# Altium schematic symbol library Sch_Passive_Componnent.SchLib: 22 symbols
Pins are listed as number, name and electrical type; pins without a type are passive.

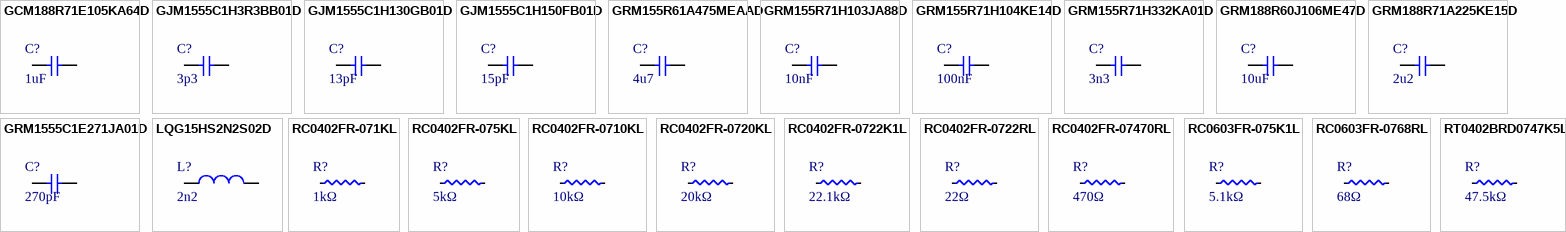
[diagram p0: symbols GCM188R71E105KA64D to RT0402BRD0747K5L]

## GCM188R71E105KA64D
designator C?, comment 1uF
Ceramic Capacitor, Multilayer, Ceramic, 25V, 10% +Tol, 10% -Tol, X7R, 15% TC, 1uF, Surface Mount, 0603; Manufacturer: Murata; Manufacturer Part Number: GCM188R71E105KA64D; Multilayer: Yes; Reference Standard: AEC-Q200; Supplier: Digikey; Supplier Part Number: 490-10673-1-ND; RoHS: Yes; Category: Ceramic Capacitors; Stock: 1335317; Pricing: 1=0.2, 10=0.116, 100=0.0723, 1000=0.05004 (USD); Mounting Technology: Surface Mount; Pins: 2; Dielectric Material: Ceramic; Package Shape: Rectangular; Case/Package: 0603; Terminal Finish: Nickel; Min Operating Temperature: -55°C; Max Operating Temperature: 125°C; JESD-609 Code: e3; Value: 1uF; Capacitor Type: Ceramic; Tolerance  (fill in as +-): 10%; Package Style: SMTMeter; Packaging: Tape and Reel; Tolerance (fill in as +-): 10%; Rated DC Voltage (URdc): 25V; Temperature Characteristics Code: X7R; Termination: Wraparound; Length: 1.6mm; Width: 0.8mm; Height: 0.9mm; Reach SVHC Compliant: Yes; RoHS Compliant: Yes; ComponentLink1URL: https://datasheet.ciiva.com:443/pdfs/VipMasterIC/IC/MURE/MURE-S-A0004362469/MURE-S-A0004362812-1.pdf?src-supplier=IHS+Markit; ComponentLink1Description: https://datasheet.ciiva.com:443/pdfs/VipMasterIC/IC/MURE/MURE-S-A0004362469/MURE-S-A0004362812-1.pdf?src-supplier=IHS+Markit; ComponentLink2URL: https://datasheet.ciiva.com/11616/product-11616499.pdf?src-supplier=Avnet; ComponentLink2Description: https://datasheet.ciiva.com/11616/product-11616499.pdf?src-supplier=Avnet; ComponentLink3URL: https://datasheet.ciiva.com/26843/getdatasheetpartid-562446-26843671.pdf?src-supplier=Verical; ComponentLink3Description: https://datasheet.ciiva.com/26843/getdatasheetpartid-562446-26843671.pdf?src-supplier=Verical; LCSC Part #: C85862
footprint CAP 0603
pins: 1, 2

## GJM1555C1H3R3BB01D
designator C?, comment 3p3
50V 3.3pF C0G 0402 Multilayer Ceramic Capacitors MLCC - SMD/SMT ROHS; Manufacturer: Murata; Manufacturer Part Number: GJM1555C1H3R3BB01D; Multilayer: Yes; Tolerance  (fill in as +-): 3.03%; Supplier: Digikey; Supplier Part Number: 490-8097-6-ND; RoHS: Yes; Category: Ceramic Capacitors; Pricing: 1=0.1, 10=0.052, 50=0.0356, 100=0.0307, 500=0.02224, 1000=0.01991, 2500=0.01725, 5000=0.01565 (USD); Mounting Technology: Surface Mount; Pins: 2; Dielectric Material: Ceramic; Package Shape: Rectangular; Case/Package: 0402; Terminal Finish: Nickel; Min Operating Temperature: -55°C; Max Operating Temperature: 125°C; JESD-609 Code: e3; Value: 3.3pF; Capacitor Type: Ceramic; Package Style: SMTMeter; Packaging: Tape and Reel; Tolerance (fill in as +-): 3.03%; Rated DC Voltage (URdc): 50V; Temperature Characteristics Code: C0G; Termination: Wraparound; Length: 1mm; Width: 0.5mm; Height: 0.5mm; Reach SVHC Compliant: Yes; RoHS Compliant: Yes; ComponentLink1URL: https://datasheet.ciiva.com:443/pdfs/VipMasterIC/IC/MURE/MURE-S-A0008911154/MURE-S-A0008911150-1.pdf?src-supplier=IHS+Markit; ComponentLink1Description: https://datasheet.ciiva.com:443/pdfs/VipMasterIC/IC/MURE/MURE-S-A0008911154/MURE-S-A0008911150-1.pdf?src-supplier=IHS+Markit; ComponentLink2URL: https://datasheet.ciiva.com/8030/1700175-8030120.pdf?src-supplier=Element14; ComponentLink2Description: https://datasheet.ciiva.com/8030/1700175-8030120.pdf?src-supplier=Element14; ComponentLink3URL: https://datasheet.ciiva.com/11614/product-11614199.pdf?src-supplier=Avnet; ComponentLink3Description: https://datasheet.ciiva.com/11614/product-11614199.pdf?src-supplier=Avnet; LCSC Part #: C76906
footprint CAP 0402
pins: 1, 2

## GJM1555C1H130GB01D
designator C?, comment 13pF
50V 13pF C0G ±2% 0402 Multilayer Ceramic Capacitors MLCC - SMD/SMT ROHS; Manufacturer: Murata; Manufacturer Part Number: GJM1555C1H130GB01D; Multilayer: Yes; Supplier: Digikey; Supplier Part Number: 490-8079-1-ND; RoHS: Yes; Category: Ceramic Capacitors; Stock: 115442; Pricing: 1=0.15, 10=0.082, 100=0.0501, 1000=0.03306, 2500=0.02717, 5000=0.02687 (USD); Mounting Technology: Surface Mount; Pins: 2; Dielectric Material: Ceramic; Package Shape: Rectangular; Case/Package: 0402; Terminal Finish: Nickel; Min Operating Temperature: -55°C; Max Operating Temperature: 125°C; JESD-609 Code: e3; Value: 13pF; Capacitor Type: Ceramic; Tolerance  (fill in as +-): 2%; Package Style: SMTMeter; Packaging: Tape and Reel; Tolerance (fill in as +-): 2%; Rated DC Voltage (URdc): 50V; Temperature Characteristics Code: C0G; Termination: Wraparound; Length: 1mm; Width: 0.5mm; Height: 0.5mm; Reach SVHC Compliant: Yes; RoHS Compliant: Yes; ComponentLink1URL: https://datasheet.ciiva.com:443/pdfs/VipMasterIC/IC/MURE/MURE-S-A0004378008/MURE-S-A0004383563-1.pdf?src-supplier=IHS+Markit; ComponentLink1Description: https://datasheet.ciiva.com:443/pdfs/VipMasterIC/IC/MURE/MURE-S-A0004378008/MURE-S-A0004383563-1.pdf?src-supplier=IHS+Markit; ComponentLink2URL: https://datasheet.ciiva.com/166/product-166991.pdf?src-supplier=Digikey; ComponentLink2Description: https://datasheet.ciiva.com/166/product-166991.pdf?src-supplier=Digikey; ComponentLink3URL: https://datasheet.ciiva.com/29542/partnumbering-e-01-29542733.pdf?src-supplier=Digikey; ComponentLink3Description: https://datasheet.ciiva.com/29542/partnumbering-e-01-29542733.pdf?src-supplier=Digikey; ComponentLink4URL: https://datasheet.ciiva.com/29542/partnumbering-e-01-29542734.pdf?src-supplier=Digikey; ComponentLink4Description: https://datasheet.ciiva.com/29542/partnumbering-e-01-29542734.pdf?src-supplier=Digikey; ComponentLink5URL: https://datasheet.ciiva.com/29542/partnumbering-e-01-29542735.pdf?src-supplier=Digikey; ComponentLink5Description: https://datasheet.ciiva.com/29542/partnumbering-e-01-29542735.pdf?src-supplier=Digikey; LCSC Part #: C2167421
footprint CAP 0402
pins: 1, 2

## GJM1555C1H150FB01D
designator C?, comment 15pF
Ceramic Capacitor, Multilayer, Ceramic, 50V, 1% +Tol, 1% -Tol, C0G, 30ppm/Cel TC, 0.000015uF, Surface Mount, 0402; Manufacturer: Murata; Manufacturer Part Number: GJM1555C1H150FB01D; Multilayer: Yes; Supplier: Digikey; Supplier Part Number: 490-11191-6-ND; RoHS: Yes; Category: Ceramic Capacitors; Stock: 61415; Pricing: 1=0.13, 10=0.074, 100=0.0446, 1000=0.02973, 2500=0.02606, 5000=0.02385 (USD); Mounting Technology: Surface Mount; Pins: 2; Dielectric Material: Ceramic; Package Shape: Rectangular; Case/Package: 0402; Terminal Finish: Nickel; Min Operating Temperature: -55°C; Max Operating Temperature: 125°C; JESD-609 Code: e3; Value: 15pF; Capacitor Type: Ceramic; Tolerance: 1%; Packaging: Tape and Reel; Tolerance (fill in as +-): 1%; Rated DC Voltage (URdc): 50V; Temperature Characteristics Code: C0G; Termination: Wraparound; Reach SVHC Compliant: Yes; RoHS Compliant: Yes; ComponentLink1URL: https://datasheet.ciiva.com:443/pdfs/VipMasterIC/IC/MURE/MURE-S-A0004383799/MURE-S-A0004384018-1.pdf?src-supplier=IHS+Markit; ComponentLink1Description: https://datasheet.ciiva.com:443/pdfs/VipMasterIC/IC/MURE/MURE-S-A0004383799/MURE-S-A0004384018-1.pdf?src-supplier=IHS+Markit; ComponentLink2URL: https://datasheet.ciiva.com/11608/c02e-11608383.pdf?src-supplier=Avnet; ComponentLink2Description: https://datasheet.ciiva.com/11608/c02e-11608383.pdf?src-supplier=Avnet; LCSC Part #: C441742
footprint CAP 0402
pins: 1, 2

## GRM155R61A475MEAAD
designator C?, comment 4u7
10V 4.7uF X5R ±20% 0402 Multilayer Ceramic Capacitors MLCC - SMD/SMT ROHS; Manufacturer: Murata; Manufacturer Part Number: GRM155R61A475MEAAD; Multilayer: Yes; Supplier: Digikey; Supplier Part Number: 490-14306-1-ND; RoHS: Yes; Category: Ceramic Capacitors; Stock: 45907; Pricing: 1=0.11, 10=0.058, 50=0.04, 100=0.0346, 500=0.02542, 1000=0.02261, 2500=0.01966, 5000=0.01789 (USD); Mounting Technology: Surface Mount; Pins: 2; Dielectric Material: Ceramic; Package Shape: Rectangular; Case/Package: 0402; Terminal Finish: Nickel; Min Operating Temperature: -55°C; Max Operating Temperature: 85°C; JESD-609 Code: e3; Value: 4.7uF; Capacitor Type: Ceramic; Tolerance  (fill in as +-): 20%; Packaging: Tape and Reel; Tolerance (fill in as +-): 20%; Rated DC Voltage (URdc): 10V; Temperature Characteristics Code: X5R; Termination: Wraparound; Reach SVHC Compliant: Yes; RoHS Compliant: Yes; ComponentLink1URL: https://psearch.en.murata.com:443/capacitor/product/GRM155R61A475MEAA%23.pdf?src-supplier=IHS+Markit; ComponentLink1Description: https://psearch.en.murata.com:443/capacitor/product/GRM155R61A475MEAA%23.pdf?src-supplier=IHS+Markit; ComponentLink2URL: http://www.farnell.com/datasheets/2189109.pdf?src-supplier=Farnell; ComponentLink2Description: http://www.farnell.com/datasheets/2189109.pdf?src-supplier=Farnell; ComponentLink3URL: http://www.farnell.com/datasheets/2189109.pdf?src-supplier=Element14; ComponentLink3Description: http://www.farnell.com/datasheets/2189109.pdf?src-supplier=Element14; ComponentLink4URL: http://datasheet.octopart.com/GRM155R61A475MEAAD-Murata-datasheet-68589269.pdf?src-supplier=Farnell; ComponentLink4Description: http://datasheet.octopart.com/GRM155R61A475MEAAD-Murata-datasheet-68589269.pdf?src-supplier=Farnell; ComponentLink5URL: https://search.murata.co.jp/Ceramy/image/img/A01X/G101/ENG/GRM155R61A475MEAA-01.pdf?src-supplier=Digikey; ComponentLink5Description: https://search.murata.co.jp/Ceramy/image/img/A01X/G101/ENG/GRM155R61A475MEAA-01.pdf?src-supplier=Digikey; ComponentLink6URL: https://datasheet.octopart.com/GRM155R61A475MEAAD-Murata-datasheet-68589269.pdf?src-supplier=Newark; ComponentLink6Description: https://datasheet.octopart.com/GRM155R61A475MEAAD-Murata-datasheet-68589269.pdf?src-supplier=Newark; ComponentLink7URL: http://datasheet.octopart.com/GRM155R61A475MEAAD-Murata-datasheet-68589269.pdf?src-supplier=Verical; ComponentLink7Description: http://datasheet.octopart.com/GRM155R61A475MEAAD-Murata-datasheet-68589269.pdf?src-supplier=Verical; ComponentLink8URL: https://datasheet.octopart.com/GRM155R61A475MEAAD-Murata-datasheet-165579666.pdf?src-supplier=TME; ComponentLink8Description: https://datasheet.octopart.com/GRM155R61A475MEAAD-Murata-datasheet-165579666.pdf?src-supplier=TME; ComponentLink9URL: http://datasheet.octopart.com/GRM155R61A475MEAAD-Murata-datasheet-68589269.pdf?src-supplier=Quest; ComponentLink9Description: http://datasheet.octopart.com/GRM155R61A475MEAAD-Murata-datasheet-68589269.pdf?src-supplier=Quest; ComponentLink10URL: http://datasheet.octopart.com/GRM155R61A475MEAAD-Murata-datasheet-68589269.pdf?src-supplier=TTI; ComponentLink10Description: http://datasheet.octopart.com/GRM155R61A475MEAAD-Murata-datasheet-68589269.pdf?src-supplier=TTI; LCSC Part #: C335105
footprint CAP 0402
pins: 1, 2

## GRM155R71H103JA88D
designator C?, comment 10nF
Ceramic Capacitor, Multilayer, Ceramic, 50V, 5% +Tol, 5% -Tol, X7R, 15% TC, 0.01uF, Surface Mount, 0402; Manufacturer: Murata; Manufacturer Part Number: GRM155R71H103JA88D; Multilayer: Yes; Supplier: Digikey; Supplier Part Number: 490-7763-1-ND; RoHS: Yes; Category: Ceramic Capacitors; Stock: 241379; Pricing: 1=0.1, 10=0.027, 100=0.0151, 1000=0.00932, 2500=0.00781, 5000=0.00704 (USD); Mounting Technology: Surface Mount; Pins: 2; Dielectric Material: Ceramic; Package Shape: Rectangular; Case/Package: 0402; Terminal Finish: Nickel; Min Operating Temperature: -55°C; Max Operating Temperature: 125°C; JESD-609 Code: e3; Value: 10nF; Capacitor Type: Ceramic; Tolerance  (fill in as +-): 5%; Packaging: Tape and Reel; Tolerance (fill in as +-): 5%; Rated DC Voltage (URdc): 50V; Temperature Characteristics Code: X7R; Termination: Wraparound; Reach SVHC Compliant: Yes; RoHS Compliant: Yes; ComponentLink1URL: https://datasheet.ciiva.com:443/pdfs/VipMasterIC/IC/MURE/MURE-S-A0004362469/MURE-S-A0004364623-1.pdf?src-supplier=IHS+Markit; ComponentLink1Description: https://datasheet.ciiva.com:443/pdfs/VipMasterIC/IC/MURE/MURE-S-A0004362469/MURE-S-A0004364623-1.pdf?src-supplier=IHS+Markit; ComponentLink2URL: https://datasheet.ciiva.com/29541/grm155r71h103ja88-01-29541105.pdf?src-supplier=Digikey; ComponentLink2Description: https://datasheet.ciiva.com/29541/grm155r71h103ja88-01-29541105.pdf?src-supplier=Digikey; ComponentLink3URL: https://datasheet.ciiva.com/5414/product-5414326.pdf?src-supplier=Mouser; ComponentLink3Description: https://datasheet.ciiva.com/5414/product-5414326.pdf?src-supplier=Mouser; LCSC Part #: C162190
footprint CAP 0402
pins: 1, 2

## GRM155R71H104KE14D
designator C?, comment 100nF
Ceramic Capacitor, Multilayer, Ceramic, 50V, 10% +Tol, 10% -Tol, X7R, 15% TC, 0.1uF, Surface Mount, 0402; Manufacturer: Murata; Manufacturer Part Number: GRM155R71H104KE14D; Multilayer: Yes; Supplier: Digikey; Supplier Part Number: 490-10700-1-ND; RoHS: Yes; Category: Ceramic Capacitors; Stock: 2382942; Pricing: 1=0.1, 10=0.025, 100=0.0139, 1000=0.00852, 2500=0.0072, 5000=0.0064 (USD); Mounting Technology: Surface Mount; Pins: 2; Dielectric Material: Ceramic; Package Shape: Rectangular; Case/Package: 0402; Terminal Finish: Nickel; Min Operating Temperature: -55°C; Max Operating Temperature: 125°C; JESD-609 Code: e3; Value: 100nF; Capacitor Type: Ceramic; Tolerance  (fill in as +-): 10%; Package Style: SMTMeter; Packaging: Tape and Reel; Tolerance (fill in as +-): 10%; Rated DC Voltage (URdc): 50V; Temperature Characteristics Code: X7R; Termination: Wraparound; Length: 1mm; Width: 0.5mm; Height: 0.5mm; Reach SVHC Compliant: Yes; RoHS Compliant: Yes; ComponentLink1URL: https://datasheet.ciiva.com:443/pdfs/VipMasterIC/IC/MURE/MURE-S-A0004362469/MURE-S-A0004364757-1.pdf?src-supplier=IHS+Markit; ComponentLink1Description: https://datasheet.ciiva.com:443/pdfs/VipMasterIC/IC/MURE/MURE-S-A0004362469/MURE-S-A0004364757-1.pdf?src-supplier=IHS+Markit; ComponentLink2URL: http://www.farnell.com/datasheets/2079156.pdf?src-supplier=Farnell; ComponentLink2Description: http://www.farnell.com/datasheets/2079156.pdf?src-supplier=Farnell; ComponentLink3URL: https://datasheet.octopart.com/GRM155R71H104KE14D-Murata-datasheet-66077078.pdf?src-supplier=Element14; ComponentLink3Description: https://datasheet.octopart.com/GRM155R71H104KE14D-Murata-datasheet-66077078.pdf?src-supplier=Element14; ComponentLink4URL: https://search.murata.co.jp/Ceramy/image/img/A01X/G101/ENG/GRM155R71H104KE14-01.pdf?src-supplier=Digikey; ComponentLink4Description: https://search.murata.co.jp/Ceramy/image/img/A01X/G101/ENG/GRM155R71H104KE14-01.pdf?src-supplier=Digikey; ComponentLink5URL: https://datasheet.octopart.com/GRM155R71H104KE14D-Murata-datasheet-22122223.pdf?src-supplier=Future+Electronics; ComponentLink5Description: https://datasheet.octopart.com/GRM155R71H104KE14D-Murata-datasheet-22122223.pdf?src-supplier=Future+Electronics; ComponentLink6URL: http://www.farnell.com/datasheets/2079156.pdf?src-supplier=Newark; ComponentLink6Description: http://www.farnell.com/datasheets/2079156.pdf?src-supplier=Newark; ComponentLink7URL: http://psearch.en.murata.com/capacitor/product/GRM155R71H104KE14%23.pdf?src-supplier=Avnet; ComponentLink7Description: http://psearch.en.murata.com/capacitor/product/GRM155R71H104KE14%23.pdf?src-supplier=Avnet; LCSC Part #: C77020
footprint CAP 0402
pins: 1, 2

## GRM155R71H332KA01D
designator C?, comment 3n3
50V 3.3nF X7R ±10% 0402 Multilayer Ceramic Capacitors MLCC - SMD/SMT ROHS; Manufacturer: Murata; Manufacturer Part Number: GRM155R71H332KA01D; Dissipation Factor: 0.025%; Insulation Resistance: 10GR; Supplier: Digikey; Supplier Part Number: 490-3248-1-ND; RoHS: Yes; Category: Ceramic Capacitors; Stock: 45156; Pricing: 1=0.1, 10=0.025, 100=0.0139, 1000=0.00852, 2500=0.00676, 5000=0.0064 (USD); Mounting Technology: Surface Mount; Case/Package: 0402; Pins: 2NUMBER; Case Code (Metric): 1005; Case Code (Imperial): 0402; Material: Ceramic; Min Operating Temperature: -55°C; Max Operating Temperature: 125°C; Value: 3.3nF; Tolerance: 10%; Package Quantity: 1; Packaging: Tape and Reel; Voltage Rating (DC): 50V; Voltage Rating: 50V; Dielectric: X7R; Termination: SMD/SMT; Voltage: 50V; Series: GRM; Construction: Flat; Length: 1mm; Width: 0.02inch; Height: 0.5mm; Thickness: 0.022inch; Depth: 0.5mm; Radiation Hardening: No; Reach SVHC Compliant: No; RoHS Compliant: Yes; Lead Free: 5697LeadFree; ComponentLink1URL: https://datasheet.ciiva.com/129/grm155r71h332ka01-01-129766.pdf?src-supplier=Digikey; ComponentLink1Description: https://datasheet.ciiva.com/129/grm155r71h332ka01-01-129766.pdf?src-supplier=Digikey; ComponentLink2URL: https://datasheet.ciiva.com/129/grm155r71h332ka01-01-129767.pdf?src-supplier=Digikey; ComponentLink2Description: https://datasheet.ciiva.com/129/grm155r71h332ka01-01-129767.pdf?src-supplier=Digikey; ComponentLink3URL: https://datasheet.ciiva.com/11789/0900766b80ef921d-11789161.pdf?src-supplier=Rs; ComponentLink3Description: https://datasheet.ciiva.com/11789/0900766b80ef921d-11789161.pdf?src-supplier=Rs; ComponentLink4URL: https://datasheet.ciiva.com/5422/product-5422403.pdf?src-supplier=Mouser; ComponentLink4Description: https://datasheet.ciiva.com/5422/product-5422403.pdf?src-supplier=Mouser; ComponentLink5URL: https://datasheet.ciiva.com/18184/getdatasheetpartid-149678-18184747.pdf?src-supplier=Verical; ComponentLink5Description: https://datasheet.ciiva.com/18184/getdatasheetpartid-149678-18184747.pdf?src-supplier=Verical; ComponentLink6URL: https://datasheet.ciiva.com/29199/454326-da-01-en-vs-kondensator-0402-29199651.pdf?src-supplier=Conrad; ComponentLink6Description: https://datasheet.ciiva.com/29199/454326-da-01-en-vs-kondensator-0402-29199651.pdf?src-supplier=Conrad; ComponentLink7URL: https://datasheet.ciiva.com/14116/grmseries-highdielectrictype-eng-14116909.pdf?src-supplier=Distrelec; ComponentLink7Description: https://datasheet.ciiva.com/14116/grmseries-highdielectrictype-eng-14116909.pdf?src-supplier=Distrelec; ComponentLink8URL: https://datasheet.ciiva.com/2989/product-2989413.pdf?src-supplier=Avnet; ComponentLink8Description: https://datasheet.ciiva.com/2989/product-2989413.pdf?src-supplier=Avnet; ComponentLink9URL: https://datasheet.ciiva.com/16199/product-16199259.pdf?src-supplier=Future+Electronics; ComponentLink9Description: https://datasheet.ciiva.com/16199/product-16199259.pdf?src-supplier=Future+Electronics; LCSC Part #: C85963
footprint CAP 0402
pins: 1, 2

## GRM188R60J106ME47D
designator C?, comment 10uF
6.3V 10uF X5R ±20% 0603 Multilayer Ceramic Capacitors MLCC - SMD/SMT ROHS; Manufacturer: Murata; Manufacturer Part Number: GRM188R60J106ME47D; Multilayer: Yes; Supplier: Digikey; Supplier Part Number: 490-3896-1-ND; RoHS: Yes; Category: Ceramic Capacitors; Stock: 345408; Pricing: 1=0.12, 10=0.069, 50=0.0476, 100=0.0413, 500=0.03068, 1000=0.0274 (USD); Mounting Technology: Surface Mount; Pins: 2; Dielectric Material: Ceramic; Package Shape: Rectangular; Case/Package: 0603; Terminal Finish: Nickel; Min Operating Temperature: -55°C; Max Operating Temperature: 85°C; JESD-609 Code: e3; Value: 10uF; Capacitor Type: Ceramic; Tolerance  (fill in as +-): 20%; Package Style: SMTMeter; Packaging: Tape and Reel; Tolerance (fill in as +-): 20%; Rated DC Voltage (URdc): 6.3V; Temperature Characteristics Code: X5R; Termination: Wraparound; Length: 1.6mm; Width: 0.8mm; Height: 0.8mm; Reach SVHC Compliant: Yes; RoHS Compliant: Yes; ComponentLink1URL: https://datasheet.ciiva.com:443/pdfs/VipMasterIC/IC/MURE/MURE-S-A0008911298/MURE-S-A0008911290-1.pdf?src-supplier=IHS+Markit; ComponentLink1Description: https://datasheet.ciiva.com:443/pdfs/VipMasterIC/IC/MURE/MURE-S-A0008911298/MURE-S-A0008911290-1.pdf?src-supplier=IHS+Markit; ComponentLink2URL: https://datasheet.ciiva.com/28584/415295-28584232.pdf?src-supplier=Element14; ComponentLink2Description: https://datasheet.ciiva.com/28584/415295-28584232.pdf?src-supplier=Element14; ComponentLink3URL: https://datasheet.ciiva.com/3777/10175grm188r60j106me4723-3777268.pdf?src-supplier=Arrow+Electronics; ComponentLink3Description: https://datasheet.ciiva.com/3777/10175grm188r60j106me4723-3777268.pdf?src-supplier=Arrow+Electronics; ComponentLink4URL: https://datasheet.ciiva.com/22776/1747457-22776418.pdf?src-supplier=Farnell; ComponentLink4Description: https://datasheet.ciiva.com/22776/1747457-22776418.pdf?src-supplier=Farnell; ComponentLink5URL: https://datasheet.ciiva.com/29202/450781-da-01-de-vs-chip-kond-0603-10-0-uf-20pr-6-3v-x5r-29202806.pdf?src-supplier=Conrad; ComponentLink5Description: https://datasheet.ciiva.com/29202/450781-da-01-de-vs-chip-kond-0603-10-0-uf-20pr-6-3v-x5r-29202806.pdf?src-supplier=Conrad; ComponentLink6URL: https://datasheet.ciiva.com/29199/454401-da-01-en-vs-kondensator-0603-29199677.pdf?src-supplier=Conrad; ComponentLink6Description: https://datasheet.ciiva.com/29199/454401-da-01-en-vs-kondensator-0603-29199677.pdf?src-supplier=Conrad; ComponentLink7URL: https://datasheet.ciiva.com/138/partnumbering-e-01-138659.pdf?src-supplier=Digikey; ComponentLink7Description: https://datasheet.ciiva.com/138/partnumbering-e-01-138659.pdf?src-supplier=Digikey; ComponentLink8URL: https://datasheet.ciiva.com/138/partnumbering-e-01-138658.pdf?src-supplier=Digikey; ComponentLink8Description: https://datasheet.ciiva.com/138/partnumbering-e-01-138658.pdf?src-supplier=Digikey; ComponentLink9URL: https://datasheet.ciiva.com/16373/l0005e-16373580.pdf?src-supplier=Future+Electronics; ComponentLink9Description: https://datasheet.ciiva.com/16373/l0005e-16373580.pdf?src-supplier=Future+Electronics; ComponentLink10URL: https://datasheet.ciiva.com/14116/grmseries-highdielectrictype-eng-14116428.pdf?src-supplier=Distrelec; ComponentLink10Description: https://datasheet.ciiva.com/14116/grmseries-highdielectrictype-eng-14116428.pdf?src-supplier=Distrelec; ComponentLink11URL: https://datasheet.ciiva.com/138/partnumbering-e-01-138660.pdf?src-supplier=Digikey; ComponentLink11Description: https://datasheet.ciiva.com/138/partnumbering-e-01-138660.pdf?src-supplier=Digikey; LCSC PArt #: C77041
footprint CAP 0603
pins: 1, 2

## GRM188R71A225KE15D
designator C?, comment 2u2
Ceramic Capacitor, Multilayer, Ceramic, 10V, 10% +Tol, 10% -Tol, X7R, 15% TC, 2.2uF, Surface Mount, 0603; Manufacturer: Murata; Manufacturer Part Number: GRM188R71A225KE15D; Multilayer: Yes; Supplier: Digikey; Supplier Part Number: 490-4520-1-ND; RoHS: Yes; Category: Ceramic Capacitors; Pricing: 1=0.15, 10=0.085, 100=0.052, 1000=0.03511 (USD); Mounting Technology: Surface Mount; Pins: 2; Dielectric Material: Ceramic; Package Shape: Rectangular; Case/Package: 0603; Terminal Finish: Nickel; Min Operating Temperature: -55°C; Max Operating Temperature: 125°C; JESD-609 Code: e3; Value: 2.2uF; Capacitor Type: Ceramic; Tolerance  (fill in as +-): 10%; Package Style: SMTMeter; Packaging: Tape and Reel; Tolerance (fill in as +-): 10%; Rated DC Voltage (URdc): 10V; Temperature Characteristics Code: X7R; Termination: Wraparound; Length: 1.6mm; Width: 0.8mm; Height: 0.8mm; Reach SVHC Compliant: Yes; RoHS Compliant: Yes; ComponentLink1URL: https://datasheet.ciiva.com:443/pdfs/VipMasterIC/IC/MURE/MURE-S-A0000034126/MURE-S-A0000034126-1.pdf?src-supplier=IHS+Markit; ComponentLink1Description: https://datasheet.ciiva.com:443/pdfs/VipMasterIC/IC/MURE/MURE-S-A0000034126/MURE-S-A0000034126-1.pdf?src-supplier=IHS+Markit; ComponentLink2URL: https://datasheet.ciiva.com/22703/1697709-22703330.pdf?src-supplier=Element14; ComponentLink2Description: https://datasheet.ciiva.com/22703/1697709-22703330.pdf?src-supplier=Element14; ComponentLink3URL: https://datasheet.ciiva.com/138/grm188r71a225ke15-01-138559.pdf?src-supplier=Digikey; ComponentLink3Description: https://datasheet.ciiva.com/138/grm188r71a225ke15-01-138559.pdf?src-supplier=Digikey; ComponentLink4URL: https://datasheet.ciiva.com/3778/302grm188r71a225ke1523-3778402.pdf?src-supplier=Arrow+Electronics; ComponentLink4Description: https://datasheet.ciiva.com/3778/302grm188r71a225ke1523-3778402.pdf?src-supplier=Arrow+Electronics; ComponentLink5URL: https://datasheet.ciiva.com/29199/454488-da-01-en-vs-kondensator-0603-29199701.pdf?src-supplier=Conrad; ComponentLink5Description: https://datasheet.ciiva.com/29199/454488-da-01-en-vs-kondensator-0603-29199701.pdf?src-supplier=Conrad; ComponentLink6URL: https://datasheet.ciiva.com/138/grm188r71a225ke15-01-138561.pdf?src-supplier=Digikey; ComponentLink6Description: https://datasheet.ciiva.com/138/grm188r71a225ke15-01-138561.pdf?src-supplier=Digikey; ComponentLink7URL: https://datasheet.ciiva.com/16389/product-16389723.pdf?src-supplier=Future+Electronics; ComponentLink7Description: https://datasheet.ciiva.com/16389/product-16389723.pdf?src-supplier=Future+Electronics; LCSC Part #: C86018
footprint CAP 0603
pins: 1, 2

## GRM1555C1E271JA01D
designator C?, comment 270pF
25V 270pF ±5% 0402 Multilayer Ceramic Capacitors MLCC - SMD/SMT ROHS; Manufacturer: Murata; Manufacturer Part Number: GRM1555C1E271JA01D; Multilayer: Yes; Temperature Characteristics Code: C0G; Supplier: Digikey; Supplier Part Number: 490-11365-1-ND; RoHS: Yes; Category: Ceramic Capacitors; Stock: 7011; Pricing: 1=0.11, 10=0.058, 100=0.0346, 1000=0.02261, 2500=0.01966, 5000=0.01789 (USD); Mounting Technology: Surface Mount; Pins: 2; Dielectric Material: Ceramic; Package Shape: Rectangular; Case/Package: 0402; Terminal Finish: Nickel; Min Operating Temperature: -55°C; Max Operating Temperature: 125°C; JESD-609 Code: e3; Value: 270pF; Capacitor Type: Ceramic; Tolerance  (fill in as +-): 5%; Packaging: Tape and Reel; Tolerance (fill in as +-): 5%; Rated DC Voltage (URdc): 25V; Termination: Wraparound; Reach SVHC Compliant: Yes; RoHS Compliant: Yes; ComponentLink1URL: https://datasheet.ciiva.com:443/pdfs/VipMasterIC/IC/MURE/MURE-S-A0004280628/MURE-S-A0004344878-1.pdf?src-supplier=IHS+Markit; ComponentLink1Description: https://datasheet.ciiva.com:443/pdfs/VipMasterIC/IC/MURE/MURE-S-A0004280628/MURE-S-A0004344878-1.pdf?src-supplier=IHS+Markit; ComponentLink2URL: https://datasheet.ciiva.com/5419/product-5419670.pdf?src-supplier=Mouser; ComponentLink2Description: https://datasheet.ciiva.com/5419/product-5419670.pdf?src-supplier=Mouser; ComponentLink3URL: https://datasheet.ciiva.com/26843/getdatasheetpartid-743393-26843755.pdf?src-supplier=Verical; ComponentLink3Description: https://datasheet.ciiva.com/26843/getdatasheetpartid-743393-26843755.pdf?src-supplier=Verical; ComponentLink4URL: https://datasheet.ciiva.com/11617/product-11617238.pdf?src-supplier=Avnet; ComponentLink4Description: https://datasheet.ciiva.com/11617/product-11617238.pdf?src-supplier=Avnet; ComponentLink5URL: https://datasheet.ciiva.com/164/partnumbering-e-01-164477.pdf?src-supplier=Digikey; ComponentLink5Description: https://datasheet.ciiva.com/164/partnumbering-e-01-164477.pdf?src-supplier=Digikey; LCSC Part #: C7282043
footprint CAP 0402
pins: 1, 2

## LQG15HS2N2S02D
designator L?, comment 2n2
900mA 2.2nH 90mΩ 0402 Inductors (SMD) ROHS; Manufacturer: Murata; Manufacturer Part Number: LQG15HS2N2S02D; Core Material: Air; Tolerance: 13.636%; Case/Size Code: 0402; DC Resistance (DCR): 90mR; Inductance-Nom (L): 0.0022uH; Inductor Application: RF INDUCTOR; Inductor Type: GENERAL PURPOSE INDUCTOR; Channels: 1; Quality Factor-Min (at L-nom): 8; Self Resonant Frequency: 6GHz; Shape/Size Description: RECTANGULAR PACKAGE; Shielding: Unshielded; Test Frequency: 100MHz; Package Height: 0.5mm; Package Length: 1mm; Supplier: Digikey; Supplier Part Number: 490-2614-1-ND; RoHS: Yes; Category: Fixed Inductors; Stock: 55852; Pricing: 1=0.1, 10=0.036, 100=0.0298, 1000=0.02454, 5000=0.0214 (USD); Pins: 2; Terminal Finish: Nickel; Min Operating Temperature: -55°C; Max Operating Temperature: 125°C; JESD-609 Code: e3; Construction: Multilayer Chip; Package Style: SMTMeter; Packaging: Tape and Reel; Max Current Rating: 900mA; Surface Mount: Yes; Terminal Placement: Dual Ended; Termination: Wraparound; Package Width: 0.5mm; Reach SVHC Compliant: Yes; RoHS Compliant: Yes; ComponentLink1URL: https://datasheet.ciiva.com:443/pdfs/VipMasterIC/IC/MURE/MURE-S-A0004278247/MURE-S-A0004278780-1.pdf?src-supplier=IHS+Markit; ComponentLink1Description: https://datasheet.ciiva.com:443/pdfs/VipMasterIC/IC/MURE/MURE-S-A0004278247/MURE-S-A0004278780-1.pdf?src-supplier=IHS+Markit; ComponentLink2URL: https://datasheet.ciiva.com/11799/0900766b8090d685-11799036.pdf?src-supplier=Rs; ComponentLink2Description: https://datasheet.ciiva.com/11799/0900766b8090d685-11799036.pdf?src-supplier=Rs; ComponentLink3URL: https://datasheet.ciiva.com/1038/l0075s0083lqg15hs-1038149.pdf?src-supplier=Digikey; ComponentLink3Description: https://datasheet.ciiva.com/1038/l0075s0083lqg15hs-1038149.pdf?src-supplier=Digikey; ComponentLink4URL: https://datasheet.ciiva.com/1038/l0075s0083lqg15hs-1038148.pdf?src-supplier=Digikey; ComponentLink4Description: https://datasheet.ciiva.com/1038/l0075s0083lqg15hs-1038148.pdf?src-supplier=Digikey; ComponentLink5URL: https://datasheet.ciiva.com/1038/l0075s0083lqg15hs-1038150.pdf?src-supplier=Digikey; ComponentLink5Description: https://datasheet.ciiva.com/1038/l0075s0083lqg15hs-1038150.pdf?src-supplier=Digikey; ComponentLink6URL: https://datasheet.ciiva.com/8510/l0075s0083lqg15hs-8510846.pdf?src-supplier=Avnet; ComponentLink6Description: https://datasheet.ciiva.com/8510/l0075s0083lqg15hs-8510846.pdf?src-supplier=Avnet; ComponentLink7URL: https://datasheet.ciiva.com/16444/l0075s0083lqg15hs-16444395.pdf?src-supplier=Future+Electronics; ComponentLink7Description: https://datasheet.ciiva.com/16444/l0075s0083lqg15hs-16444395.pdf?src-supplier=Future+Electronics; LCSC Part #: C86061; Value: 2n2; Case/Package: 0402
footprint IND_0402
pins: 1, 2

## RC0402FR-071KL
designator R?, comment 1kΩ
62.5mW Thick Film Resistor 50V ±100ppm/℃ ±1% 1kΩ 0402 Chip Resistor - Surface Mount ROHS; Manufacturer: Yageo; Manufacturer Part Number: RC0402FR-071KL; Additional Feature: LASER TRIMMABLE; Rated Temperature: 70°C; Value: 1kR; Temperature Coefficient (ppm/Cel): 100; Package Height: 0.35mm; Package Length: 1mm; Package Width: 0.5mm; Supplier: Digikey; Supplier Part Number: 311-1.00KLRCT-ND; RoHS: Yes; Category: Chip SMD Resistors; Stock: 2267350; Pricing: 1=0.1, 10=0.007, 100=0.0061, 1000=0.0051, 2500=0.00408 (USD); Mounting Technology: Surface Mount; Pins: 2; Package Shape: Rectangular; Case/Package: 0402; Terminal Finish: Nickel; Min Operating Temperature: -55°C; Max Operating Temperature: 155°C; Tolerance: 1%; JESD-609 Code: e3; Resistor Type: FIXED RESISTOR; Construction: Chip; Packaging: Tape and Reel; Power: 62.5mW; Technology: METAL GLAZE/THICK FILM; Termination: Wraparound; Working Voltage: 50V; Reach SVHC Compliant: Yes; RoHS Compliant: Yes; ComponentLink1URL: https://datasheet.ciiva.com:443/pdfs/VipMasterIC/IC/YAGO/YAGO-S-A0008145938/YAGO-S-A0008145938-1.pdf?src-supplier=IHS+Markit; ComponentLink1Description: https://datasheet.ciiva.com:443/pdfs/VipMasterIC/IC/YAGO/YAGO-S-A0008145938/YAGO-S-A0008145938-1.pdf?src-supplier=IHS+Markit; ComponentLink2URL: https://datasheet.ciiva.com/11819/0900766b80c66297-11819477.pdf?src-supplier=Rs; ComponentLink2Description: https://datasheet.ciiva.com/11819/0900766b80c66297-11819477.pdf?src-supplier=Rs; ComponentLink3URL: https://datasheet.ciiva.com/22747/1018594-22747513.pdf?src-supplier=Element14; ComponentLink3Description: https://datasheet.ciiva.com/22747/1018594-22747513.pdf?src-supplier=Element14; ComponentLink4URL: https://datasheet.ciiva.com/12666/pyu-rc0402-51-rohs-l-6-r-12666741.pdf?src-supplier=Mouser; ComponentLink4Description: https://datasheet.ciiva.com/12666/pyu-rc0402-51-rohs-l-6-r-12666741.pdf?src-supplier=Mouser; ComponentLink5URL: https://datasheet.ciiva.com/17063/pyu-rc0402-51-rohs-l-6-r-17063193.pdf?src-supplier=Future+Electronics; ComponentLink5Description: https://datasheet.ciiva.com/17063/pyu-rc0402-51-rohs-l-6-r-17063193.pdf?src-supplier=Future+Electronics; ComponentLink6URL: https://datasheet.ciiva.com/7983/1018594-7983502.pdf?src-supplier=Element14; ComponentLink6Description: https://datasheet.ciiva.com/7983/1018594-7983502.pdf?src-supplier=Element14; ComponentLink7URL: https://datasheet.ciiva.com/7849/1018594-7849869.pdf?src-supplier=Element14; ComponentLink7Description: https://datasheet.ciiva.com/7849/1018594-7849869.pdf?src-supplier=Element14; ComponentLink8URL: https://datasheet.ciiva.com/7849/1018594-7849871.pdf?src-supplier=Element14; ComponentLink8Description: https://datasheet.ciiva.com/7849/1018594-7849871.pdf?src-supplier=Element14; LCSC Part #: C106235
footprint R_0402
pins: 1, 2

## RC0402FR-075KL
designator R?, comment 5kΩ
62.5mW Thick Film Resistor 50V ±100ppm/℃ ±1% 5kΩ 0402 Chip Resistor - Surface Mount ROHS; Manufacturer: Yageo; Manufacturer Part Number: RC0402FR-075KL; Additional Feature: LASER TRIMMABLE; Rated Temperature: 70°C; Value: 5kR; Temperature Coefficient (ppm/Cel): 100; Supplier: Digikey; Supplier Part Number: 13-RC0402FR-075KLCT-ND; RoHS: Yes; Category: Chip SMD Resistors; Stock: 15936; Pricing: 1=0.1, 10=0.009, 100=0.0071, 1000=0.0051 (USD); Mounting Technology: Surface Mount; Pins: 2; Package Shape: Rectangular; Case/Package: 0402; Terminal Finish: Nickel; Min Operating Temperature: -55°C; Max Operating Temperature: 155°C; Tolerance: 1%; JESD-609 Code: e3; Resistor Type: FIXED RESISTOR; Packaging: Tape and Reel; Power: 62.5mW; Technology: METAL GLAZE/THICK FILM; Termination: Wraparound; Working Voltage: 50V; Reach SVHC Compliant: Yes; RoHS Compliant: Yes; ComponentLink1URL: https://datasheet.ciiva.com:443/pdfs/VipMasterIC/IC/YAGO/YAGO-S-A0007019037/YAGO-S-A0007019037-1.pdf?src-supplier=IHS+Markit; ComponentLink1Description: https://datasheet.ciiva.com:443/pdfs/VipMasterIC/IC/YAGO/YAGO-S-A0007019037/YAGO-S-A0007019037-1.pdf?src-supplier=IHS+Markit; ComponentLink2URL: https://datasheet.octopart.com/RC0402FR-075KL-Yageo-datasheet-164759695.pdf?src-supplier=Future+Electronics; ComponentLink2Description: https://datasheet.octopart.com/RC0402FR-075KL-Yageo-datasheet-164759695.pdf?src-supplier=Future+Electronics; ComponentLink3URL: http://www.yageo.com/documents/recent/PYu-RC_Group_51_RoHS_L_9.pdf?src-supplier=Digikey; ComponentLink3Description: http://www.yageo.com/documents/recent/PYu-RC_Group_51_RoHS_L_9.pdf?src-supplier=Digikey; ComponentLink4URL: https://datasheet.octopart.com/RC0402FR-075KL-Yageo-datasheet-175887523.pdf?src-supplier=Newark; ComponentLink4Description: https://datasheet.octopart.com/RC0402FR-075KL-Yageo-datasheet-175887523.pdf?src-supplier=Newark; LCSC Part #: C477765
footprint R_0402
pins: 1, 2

## RC0402FR-0710KL
designator R?, comment 10kΩ
62.5mW Thick Film Resistor 50V ±100ppm/℃ ±1% 10kΩ 0402 Chip Resistor - Surface Mount ROHS; Manufacturer: Yageo; Manufacturer Part Number: RC0402FR-0710KL; Additional Feature: LASER TRIMMABLE; Rated Temperature: 70°C; Value: 10kR; Temperature Coefficient (ppm/Cel): 100; Package Height: 0.35mm; Package Length: 1mm; Package Width: 0.5mm; Supplier: Digikey; Supplier Part Number: 311-10.0KLRCT-ND; RoHS: Yes; Category: Chip SMD Resistors; Pricing: 1=0.1, 10=0.011, 100=0.0092, 1000=0.0051, 2500=0.00306 (USD); Mounting Technology: Surface Mount; Pins: 2; Package Shape: Rectangular; Case/Package: 0402; Terminal Finish: Nickel; Min Operating Temperature: -55°C; Max Operating Temperature: 155°C; Tolerance: 1%; JESD-609 Code: e3; Resistor Type: FIXED RESISTOR; Construction: Chip; Packaging: Tape and Reel; Power: 62.5mW; Technology: METAL GLAZE/THICK FILM; Termination: Wraparound; Working Voltage: 50V; Reach SVHC Compliant: Yes; RoHS Compliant: Yes; ComponentLink1URL: https://datasheet.ciiva.com:443/pdfs/VipMasterIC/IC/YAGO/YAGO-S-A0008145938/YAGO-S-A0008145938-1.pdf?src-supplier=IHS+Markit; ComponentLink1Description: https://datasheet.ciiva.com:443/pdfs/VipMasterIC/IC/YAGO/YAGO-S-A0008145938/YAGO-S-A0008145938-1.pdf?src-supplier=IHS+Markit; LCSC Part #: C60490
footprint R_0402
pins: 1, 2

## RC0402FR-0720KL
designator R?, comment 20kΩ
62.5mW Thick Film Resistor 50V ±100ppm/℃ ±1% 20kΩ 0402 Chip Resistor - Surface Mount ROHS; Manufacturer: Yageo; Manufacturer Part Number: RC0402FR-0720KL; Additional Feature: LASER TRIMMABLE; Rated Temperature: 70°C; Value: 20kR; Temperature Coefficient (ppm/Cel): 100; Package Height: 0.35mm; Package Length: 1mm; Package Width: 0.5mm; Supplier: Digikey; Supplier Part Number: 311-20.0KLRCT-ND; RoHS: Yes; Category: Chip SMD Resistors; Stock: 4244; Pricing: 1=0.1, 10=0.007, 100=0.0061, 1000=0.0051, 2500=0.00408 (USD); Mounting Technology: Surface Mount; Pins: 2; Package Shape: Rectangular; Case/Package: 0402; Terminal Finish: Nickel; Min Operating Temperature: -55°C; Max Operating Temperature: 155°C; Tolerance: 1%; JESD-609 Code: e3; Resistor Type: FIXED RESISTOR; Construction: Chip; Packaging: Tape and Reel; Power: 62.5mW; Technology: METAL GLAZE/THICK FILM; Termination: Wraparound; Working Voltage: 50V; Reach SVHC Compliant: Yes; RoHS Compliant: Yes; ComponentLink1URL: https://datasheet.ciiva.com:443/pdfs/VipMasterIC/IC/YAGO/YAGO-S-A0008145938/YAGO-S-A0008145938-1.pdf?src-supplier=IHS+Markit; ComponentLink1Description: https://datasheet.ciiva.com:443/pdfs/VipMasterIC/IC/YAGO/YAGO-S-A0008145938/YAGO-S-A0008145938-1.pdf?src-supplier=IHS+Markit; LCSC Part #: C93942
footprint R_0402
pins: 1, 2

## RC0402FR-0722K1L
designator R?, comment 22.1kΩ
62.5mW Thick Film Resistor 50V ±100ppm/℃ ±1% 22.1kΩ 0402 Chip Resistor - Surface Mount ROHS; Manufacturer: Yageo; Manufacturer Part Number: RC0402FR-0722K1L; Additional Feature: LASER TRIMMABLE; Rated Temperature: 70°C; Value: 22.1kR; Temperature Coefficient (ppm/Cel): 100; Package Height: 0.35mm; Package Length: 1mm; Package Width: 0.5mm; Supplier: Digikey; Supplier Part Number: 311-22.1KLRCT-ND; RoHS: Yes; Category: Chip SMD Resistors; Stock: 84280; Pricing: 1=0.1, 10=0.008, 100=0.0061, 1000=0.0051 (USD); Mounting Technology: Surface Mount; Pins: 2; Package Shape: Rectangular; Case/Package: 0402; Terminal Finish: Nickel; Min Operating Temperature: -55°C; Max Operating Temperature: 155°C; Tolerance: 1%; JESD-609 Code: e3; Resistor Type: FIXED RESISTOR; Construction: Chip; Packaging: Tape and Reel; Power: 62.5mW; Technology: METAL GLAZE/THICK FILM; Termination: Wraparound; Working Voltage: 50V; Reach SVHC Compliant: Yes; RoHS Compliant: Yes; ComponentLink1URL: https://datasheet.ciiva.com:443/pdfs/VipMasterIC/IC/YAGO/YAGO-S-A0008145938/YAGO-S-A0008145938-1.pdf?src-supplier=IHS+Markit; ComponentLink1Description: https://datasheet.ciiva.com:443/pdfs/VipMasterIC/IC/YAGO/YAGO-S-A0008145938/YAGO-S-A0008145938-1.pdf?src-supplier=IHS+Markit; ComponentLink2URL: https://datasheet.ciiva.com/7983/1018594-7983501.pdf?src-supplier=Element14; ComponentLink2Description: https://datasheet.ciiva.com/7983/1018594-7983501.pdf?src-supplier=Element14; ComponentLink3URL: https://datasheet.ciiva.com/2553/pyu-r-int-thick-7-2553201.pdf?src-supplier=Digikey; ComponentLink3Description: https://datasheet.ciiva.com/2553/pyu-r-int-thick-7-2553201.pdf?src-supplier=Digikey; ComponentLink4URL: https://datasheet.ciiva.com/2553/pyu-r-int-thick-7-2553202.pdf?src-supplier=Digikey; ComponentLink4Description: https://datasheet.ciiva.com/2553/pyu-r-int-thick-7-2553202.pdf?src-supplier=Digikey; ComponentLink5URL: https://datasheet.ciiva.com/15189/getdatasheetpartid-251817-15189388.pdf?src-supplier=Verical; ComponentLink5Description: https://datasheet.ciiva.com/15189/getdatasheetpartid-251817-15189388.pdf?src-supplier=Verical; ComponentLink6URL: https://datasheet.ciiva.com/2553/pyu-r-int-thick-7-2553200.pdf?src-supplier=Digikey; ComponentLink6Description: https://datasheet.ciiva.com/2553/pyu-r-int-thick-7-2553200.pdf?src-supplier=Digikey; LCSC Part #: C163478
footprint R_0402
pins: 1, 2

## RC0402FR-0722RL
designator R?, comment 22Ω
62.5mW Thick Film Resistor 50V ±100ppm/℃ ±1% 22Ω 0402 Chip Resistor - Surface Mount ROHS; Manufacturer: Yageo; Manufacturer Part Number: RC0402FR-0722RL; Additional Feature: LASER TRIMMABLE; Rated Temperature: 70°C; Value: 22R; Temperature Coefficient (ppm/Cel): 100; Package Height: 0.35mm; Package Length: 1mm; Package Width: 0.5mm; Supplier: Digikey; Supplier Part Number: 311-22.0LRCT-ND; RoHS: Yes; Category: Chip SMD Resistors; Stock: 1414495; Pricing: 1=0.1, 10=0.007, 100=0.0061, 1000=0.0051, 2500=0.00408 (USD); Mounting Technology: Surface Mount; Pins: 2; Package Shape: Rectangular; Case/Package: 0402; Terminal Finish: Nickel; Min Operating Temperature: -55°C; Max Operating Temperature: 155°C; Tolerance: 1%; JESD-609 Code: e3; Resistor Type: FIXED RESISTOR; Construction: Chip; Packaging: Tape and Reel; Power: 62.5mW; Technology: METAL GLAZE/THICK FILM; Termination: Wraparound; Working Voltage: 50V; Reach SVHC Compliant: Yes; RoHS Compliant: Yes; ComponentLink1URL: https://datasheet.ciiva.com:443/pdfs/VipMasterIC/IC/YAGO/YAGO-S-A0008145938/YAGO-S-A0008145938-1.pdf?src-supplier=IHS+Markit; ComponentLink1Description: https://datasheet.ciiva.com:443/pdfs/VipMasterIC/IC/YAGO/YAGO-S-A0008145938/YAGO-S-A0008145938-1.pdf?src-supplier=IHS+Markit; LCSC Part #: C114765
footprint R_0402
pins: 1, 2

## RC0402FR-07470RL
designator R?, comment 470Ω
62.5mW Thick Film Resistor 50V ±100ppm/℃ ±1% 470Ω 0402 Chip Resistor - Surface Mount ROHS; Manufacturer: Yageo; Manufacturer Part Number: RC0402FR-07470RL; Additional Feature: LASER TRIMMABLE; Rated Temperature: 70°C; Value: 470R; Temperature Coefficient (ppm/Cel): 100; Package Height: 0.35mm; Package Length: 1mm; Package Width: 0.5mm; Supplier: Digikey; Supplier Part Number: 311-470LRCT-ND; RoHS: Yes; Category: Chip SMD Resistors; Stock: 1414168; Pricing: 1=0.1, 10=0.008, 100=0.0041, 1000=0.00306 (USD); Mounting Technology: Surface Mount; Pins: 2; Package Shape: Rectangular; Case/Package: 0402; Terminal Finish: Nickel; Min Operating Temperature: -55°C; Max Operating Temperature: 155°C; Tolerance: 1%; JESD-609 Code: e3; Resistor Type: FIXED RESISTOR; Construction: Chip; Packaging: Tape and Reel; Power: 62.5mW; Technology: METAL GLAZE/THICK FILM; Termination: Wraparound; Working Voltage: 50V; Reach SVHC Compliant: Yes; RoHS Compliant: Yes; ComponentLink1URL: https://datasheet.ciiva.com:443/pdfs/VipMasterIC/IC/YAGO/YAGO-S-A0008145938/YAGO-S-A0008145938-1.pdf?src-supplier=IHS+Markit; ComponentLink1Description: https://datasheet.ciiva.com:443/pdfs/VipMasterIC/IC/YAGO/YAGO-S-A0008145938/YAGO-S-A0008145938-1.pdf?src-supplier=IHS+Markit; LCSC Part #: C114877
footprint R_0402
pins: 1, 2

## RC0603FR-075K1L
designator R?, comment 5.1kΩ
100mW Thick Film Resistor 75V ±100ppm/℃ ±1% 5.1kΩ 0603 Chip Resistor - Surface Mount ROHS; Manufacturer: Yageo; Manufacturer Part Number: RC0603FR-075K1L; Additional Feature: LASER TRIMMABLE; Rated Temperature: 70°C; Value: 5.1kR; Temperature Coefficient (ppm/Cel): 100; Package Height: 0.45mm; Package Length: 1.6mm; Package Width: 0.8mm; Supplier: Digikey; Supplier Part Number: 311-5.10KHRCT-ND; RoHS: Yes; Category: Chip SMD Resistors; Stock: 1240997; Pricing: 1=0.1, 10=0.009, 100=0.0082, 1000=0.00612, 2500=0.00461 (USD); Mounting Technology: Surface Mount; Pins: 2; Package Shape: Rectangular; Case/Package: 0603; Terminal Finish: Nickel; Min Operating Temperature: -55°C; Max Operating Temperature: 155°C; Tolerance: 1%; JESD-609 Code: e3; Resistor Type: FIXED RESISTOR; Construction: Chip; Packaging: Tape and Reel; Power: 100mW; Technology: METAL GLAZE/THICK FILM; Termination: Wraparound; Working Voltage: 75V; Reach SVHC Compliant: Yes; RoHS Compliant: Yes; ComponentLink1URL: https://datasheet.ciiva.com:443/pdfs/VipMasterIC/IC/YAGO/YAGO-S-A0008145938/YAGO-S-A0008145938-1.pdf?src-supplier=IHS+Markit; ComponentLink1Description: https://datasheet.ciiva.com:443/pdfs/VipMasterIC/IC/YAGO/YAGO-S-A0008145938/YAGO-S-A0008145938-1.pdf?src-supplier=IHS+Markit; LCSC Part #: C105580
footprint R_0603
pins: 1, 2

## RC0603FR-0768RL
designator R?, comment 68Ω
100mW Thick Film Resistor 75V ±100ppm/℃ ±1% 68Ω 0603 Chip Resistor - Surface Mount ROHS; Manufacturer: Yageo; Manufacturer Part Number: RC0603FR-0768RL; Additional Feature: LASER TRIMMABLE; Rated Temperature: 70°C; Value: 68R; Temperature Coefficient (ppm/Cel): 100; Package Height: 0.45mm; Package Length: 1.6mm; Package Width: 0.8mm; Supplier: Digikey; Supplier Part Number: 311-68.0HRCT-ND; RoHS: Yes; Category: Chip SMD Resistors; Stock: 284607; Pricing: 1=0.1, 10=0.009, 100=0.0082, 1000=0.0051, 2500=0.00461 (USD); Mounting Technology: Surface Mount; Pins: 2; Package Shape: Rectangular; Case/Package: 0603; Terminal Finish: Nickel; Min Operating Temperature: -55°C; Max Operating Temperature: 155°C; Tolerance: 1%; JESD-609 Code: e3; Resistor Type: FIXED RESISTOR; Construction: Chip; Packaging: Tape and Reel; Power: 100mW; Technology: METAL GLAZE/THICK FILM; Termination: Wraparound; Working Voltage: 75V; Reach SVHC Compliant: Yes; RoHS Compliant: Yes; ComponentLink1URL: https://datasheet.ciiva.com:443/pdfs/VipMasterIC/IC/YAGO/YAGO-S-A0008145938/YAGO-S-A0008145938-1.pdf?src-supplier=IHS+Markit; ComponentLink1Description: https://datasheet.ciiva.com:443/pdfs/VipMasterIC/IC/YAGO/YAGO-S-A0008145938/YAGO-S-A0008145938-1.pdf?src-supplier=IHS+Markit; ComponentLink2URL: https://datasheet.ciiva.com/11809/0900766b80f96399-11809282.pdf?src-supplier=Rs; ComponentLink2Description: https://datasheet.ciiva.com/11809/0900766b80f96399-11809282.pdf?src-supplier=Rs; ComponentLink3URL: https://datasheet.ciiva.com/2454/pyu-r-int-thick-7-2454067.pdf?src-supplier=Digikey; ComponentLink3Description: https://datasheet.ciiva.com/2454/pyu-r-int-thick-7-2454067.pdf?src-supplier=Digikey; ComponentLink4URL: https://datasheet.ciiva.com/2454/pyu-r-int-thick-7-2454068.pdf?src-supplier=Digikey; ComponentLink4Description: https://datasheet.ciiva.com/2454/pyu-r-int-thick-7-2454068.pdf?src-supplier=Digikey; ComponentLink5URL: https://datasheet.ciiva.com/2454/pyu-r-int-thick-7-2454066.pdf?src-supplier=Digikey; ComponentLink5Description: https://datasheet.ciiva.com/2454/pyu-r-int-thick-7-2454066.pdf?src-supplier=Digikey; ComponentLink6URL: https://datasheet.ciiva.com/7746/443971-7746393.pdf?src-supplier=Element14; ComponentLink6Description: https://datasheet.ciiva.com/7746/443971-7746393.pdf?src-supplier=Element14; ComponentLink7URL: https://datasheet.ciiva.com/7746/443971-7746392.pdf?src-supplier=Element14; ComponentLink7Description: https://datasheet.ciiva.com/7746/443971-7746392.pdf?src-supplier=Element14; ComponentLink8URL: https://datasheet.ciiva.com/15189/getdatasheetpartid-325369-15189803.pdf?src-supplier=Verical; ComponentLink8Description: https://datasheet.ciiva.com/15189/getdatasheetpartid-325369-15189803.pdf?src-supplier=Verical; LCSC Part #: C126362
footprint R_0603
pins: 1, 2

## RT0402BRD0747K5L
designator R?, comment 47.5kΩ
63mW Thin Film Resistor ±25ppm/℃ ±0.1% 47.5kΩ 0402 Chip Resistor - Surface Mount ROHS; Manufacturer: Yageo; Manufacturer Part Number: RT0402BRD0747K5L; Additional Feature: HIGH PRECISION; Power: 62.5mW; Rated Temperature: 70°C; Value: 47.5kR; Working Voltage: 50V; Temperature Coefficient (ppm/Cel): 25; Package Height: 0.3mm; Package Length: 1mm; Package Width: 0.5mm; Supplier: Digikey; Supplier Part Number: YAG1437CT-ND; RoHS: Yes; Category: Chip SMD Resistors; Pricing: 1=0.1, 10=0.074, 50=0.0652, 100=0.0615, 500=0.05402, 1000=0.0512, 5000=0.04567 (USD); Mounting Technology: Surface Mount; Pins: 2; Case/Package: 0402; Min Operating Temperature: -55°C; Max Operating Temperature: 155°C; Tolerance: 0.1%; Resistor Type: FIXED RESISTOR; Construction: Chip; Packaging: Tape and Reel; Technology: THIN FILM; Termination: Wraparound; Reach SVHC Compliant: Yes; RoHS Compliant: Yes; ComponentLink1URL: https://datasheet.ciiva.com:443/pdfs/VipMasterIC/IC/YAGO/YAGO-S-A0008510989/YAGO-S-A0008510989-1.pdf?src-supplier=IHS+Markit; ComponentLink1Description: https://datasheet.ciiva.com:443/pdfs/VipMasterIC/IC/YAGO/YAGO-S-A0008510989/YAGO-S-A0008510989-1.pdf?src-supplier=IHS+Markit; ComponentLink2URL: https://datasheet.ciiva.com/12721/pyu-rt-1-to-0-05-rohs-l-4-12721919.pdf?src-supplier=Mouser; ComponentLink2Description: https://datasheet.ciiva.com/12721/pyu-rt-1-to-0-05-rohs-l-4-12721919.pdf?src-supplier=Mouser; LCSC Part #: LCSC Part #
footprint R_0402
pins: 1, 2